# EAGLE library part RDA5807FP (library RDA5807FP_EAGLE)
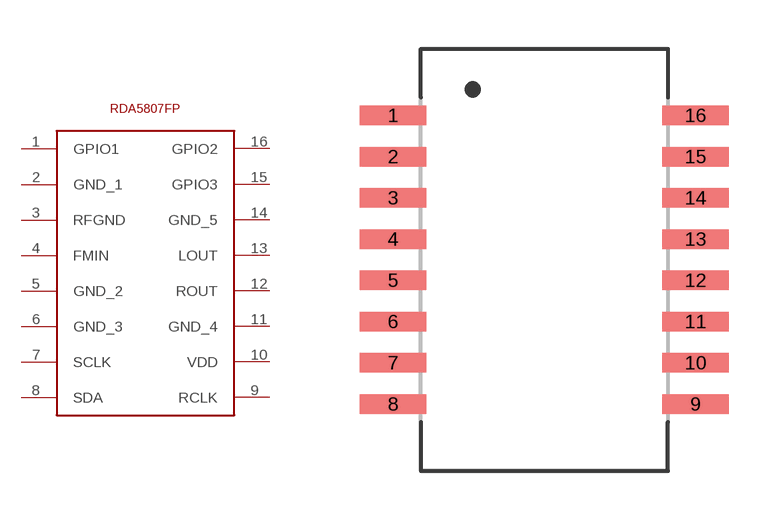
[diagram p0: symbol with the pads of RDA5807FP; footprint RDA5807FP]

Designator prefix -

## RDA5807FPRDA5807FP  [RDA5807FP]
1  GPIO1
2  GND_1
3  RFGND
4  FMIN
5  GND_2
6  GND_3
7  SCLK
8  SDA
9  RCLK
10  VDD
11  GND_4
12  ROUT
13  LOUT
14  GND_5
15  GPIO3
16  GPIO2

## Footprint RDA5807FP (pad centres in mm)
16-SOIC, 1.27 mm pitch, 10.32 mm span, 12.80 X 7.50 X 2.65 mm body 16-pin SOIC package with 1.27 mm pitch, 10.32 mm span with body size 12.80 X 7.50 X 2.65 mm
smd 2.052 x 0.602: 1 -4.654,4.445; 2 -4.654,3.175; 3 -4.654,1.905; 4 -4.654,0.635; 5 -4.654,-0.635; 6 -4.654,-1.905; 7 -4.654,-3.175; 8 -4.654,-4.445; 9 4.654,-4.445; 10 4.654,-3.175; 11 4.654,-1.905; 12 4.654,-0.635; 13 4.654,0.635; 14 4.654,1.905; 15 4.654,3.175; 16 4.654,4.445